# Altium integrated library Altium_WCAP-CSGP (rev22a).IntLib: 953 symbols (part 8 of 17)
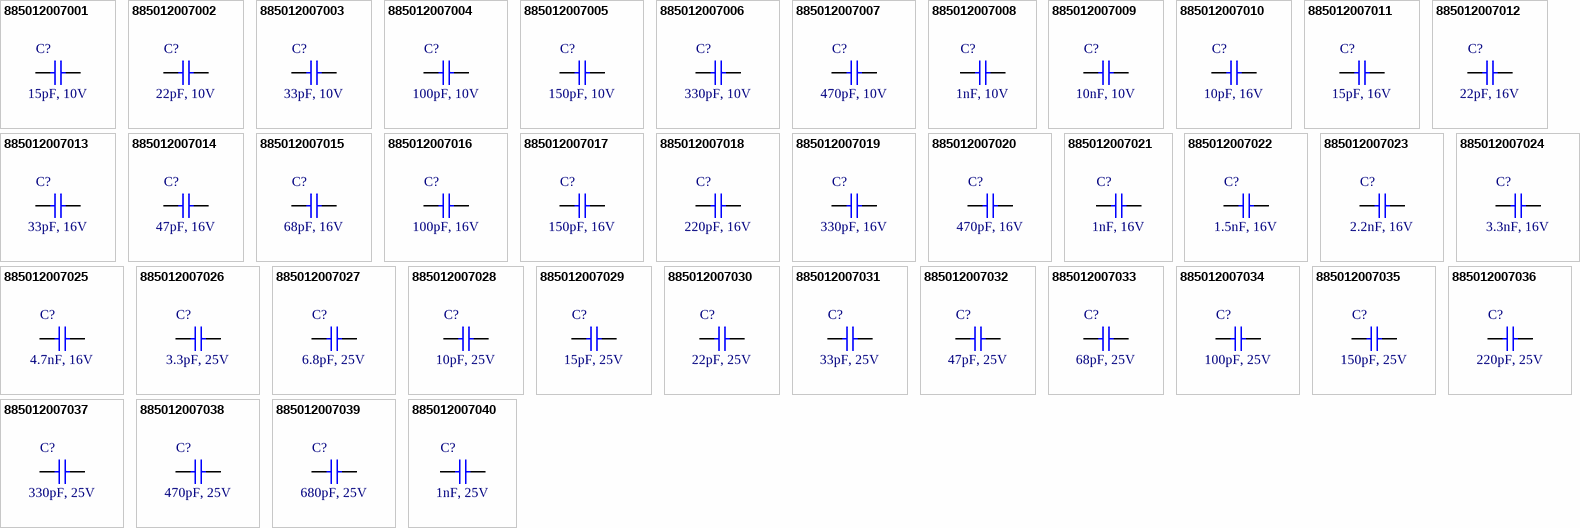
[diagram p34: symbols 885012007001 to 885012007040]

## 885012007021
designator C?, comment 1nF, 16V
WCAP-CSGP Multilayer Ceramic Chip Capacitor, General Purpose, size 0805, NP0, 1nF, 16V; Manufacturer: Wurth Elektronik; Manufacturer Part Number: 885012007021; Capacitance Tolerance: +/-5%; Isolation Resistance: 10GOhm; Q-Factor: 1000; Technical Reference: NP00805102J016DFCT10000; Capacitance: 1nF; Ceramic Type: NP0; ComponentLink1Description: Manufacturer Link; ComponentLink1URL: http://www.we-online.de; ComponentLink2Description: Datasheet; ComponentLink2URL: https://www.we-online.com/catalog/datasheet/885012007021.pdf; Height: 0.8mm; Length: 2mm; Mounting Technology: SMT; Operating Temperature max.: 125C; Operating Temperature min.: -55C; Packaging: Tape and Reel; Rated Voltage: 16V; Size: 0805; Width: 1.25mm
footprint WCAP-CSGP_0805_L2W1.25H0.8_Wave
footprint WCAP-CSGP_0805_L2W1.25H0.8_Reflow
pins: 1, 2

## 885012007022
designator C?, comment 1.5nF, 16V
WCAP-CSGP Multilayer Ceramic Chip Capacitor, General Purpose, size 0805, NP0, 1.5nF, 16V; Manufacturer: Wurth Elektronik; Manufacturer Part Number: 885012007022; Capacitance Tolerance: +/-5%; Isolation Resistance: 10GOhm; Q-Factor: 1000; Technical Reference: NP00805152J016DFCT10000; Capacitance: 1.5nF; Ceramic Type: NP0; ComponentLink1Description: Manufacturer Link; ComponentLink1URL: http://www.we-online.de; ComponentLink2Description: Datasheet; ComponentLink2URL: https://www.we-online.com/catalog/datasheet/885012007022.pdf; Height: 0.8mm; Length: 2mm; Mounting Technology: SMT; Operating Temperature max.: 125C; Operating Temperature min.: -55C; Packaging: Tape and Reel; Rated Voltage: 16V; Size: 0805; Width: 1.25mm
footprint WCAP-CSGP_0805_L2W1.25H0.8_Wave
footprint WCAP-CSGP_0805_L2W1.25H0.8_Reflow
pins: 1, 2

## 885012007023
designator C?, comment 2.2nF, 16V
WCAP-CSGP Multilayer Ceramic Chip Capacitor, General Purpose, size 0805, NP0, 2.2nF, 16V; Manufacturer: Wurth Elektronik; Manufacturer Part Number: 885012007023; Capacitance Tolerance: +/-5%; Isolation Resistance: 10GOhm; Q-Factor: 1000; Technical Reference: NP00805222J016DFCT10000; Capacitance: 2.2nF; Ceramic Type: NP0; ComponentLink1Description: Manufacturer Link; ComponentLink1URL: http://www.we-online.de; ComponentLink2Description: Datasheet; ComponentLink2URL: https://www.we-online.com/catalog/datasheet/885012007023.pdf; Height: 0.8mm; Length: 2mm; Mounting Technology: SMT; Operating Temperature max.: 125C; Operating Temperature min.: -55C; Packaging: Tape and Reel; Rated Voltage: 16V; Size: 0805; Width: 1.25mm
footprint WCAP-CSGP_0805_L2W1.25H0.8_Wave
footprint WCAP-CSGP_0805_L2W1.25H0.8_Reflow
pins: 1, 2

## 885012007024
designator C?, comment 3.3nF, 16V
WCAP-CSGP Multilayer Ceramic Chip Capacitor, General Purpose, size 0805, NP0, 3.3nF, 16V; Manufacturer: Wurth Elektronik; Manufacturer Part Number: 885012007024; Capacitance Tolerance: +/-5%; Isolation Resistance: 10GOhm; Q-Factor: 1000; Technical Reference: NP00805332J016DFCT10000; Capacitance: 3.3nF; Ceramic Type: NP0; ComponentLink1Description: Manufacturer Link; ComponentLink1URL: http://www.we-online.de; ComponentLink2Description: Datasheet; ComponentLink2URL: https://www.we-online.com/catalog/datasheet/885012007024.pdf; Height: 1.25mm; Length: 2mm; Mounting Technology: SMT; Operating Temperature max.: 125C; Operating Temperature min.: -55C; Packaging: Tape and Reel; Rated Voltage: 16V; Size: 0805; Width: 1.25mm
footprint WCAP-CSGP_0805_L2W1.25H1.25
pins: 1, 2

## 885012007025
designator C?, comment 4.7nF, 16V
WCAP-CSGP Multilayer Ceramic Chip Capacitor, General Purpose, size 0805, NP0, 4.7nF, 16V; Manufacturer: Wurth Elektronik; Manufacturer Part Number: 885012007025; Capacitance Tolerance: +/-5%; Isolation Resistance: 10GOhm; Q-Factor: 1000; Technical Reference: NP00805472J016DFCT10000; Capacitance: 4.7nF; Ceramic Type: NP0; ComponentLink1Description: Manufacturer Link; ComponentLink1URL: http://www.we-online.de; ComponentLink2Description: Datasheet; ComponentLink2URL: https://www.we-online.com/catalog/datasheet/885012007025.pdf; Height: 1.25mm; Length: 2mm; Mounting Technology: SMT; Operating Temperature max.: 125C; Operating Temperature min.: -55C; Packaging: Tape and Reel; Rated Voltage: 16V; Size: 0805; Width: 1.25mm
footprint WCAP-CSGP_0805_L2W1.25H1.25
pins: 1, 2

## 885012007026
designator C?, comment 3.3pF, 25V
WCAP-CSGP Multilayer Ceramic Chip Capacitor, General Purpose, size 0805, NP0, 3.3pF, 25V; Manufacturer: Wurth Elektronik; Manufacturer Part Number: 885012007026; Capacitance Tolerance: +/-0.5pF; Isolation Resistance: 10GOhm; Q-Factor: 466; Technical Reference: NP008053R3D025DFCT10000; Capacitance: 3.3pF; Ceramic Type: NP0; ComponentLink1Description: Manufacturer Link; ComponentLink1URL: http://www.we-online.de; ComponentLink2Description: Datasheet; ComponentLink2URL: https://www.we-online.com/catalog/datasheet/885012007026.pdf; Height: 0.6mm; Length: 2mm; Mounting Technology: SMT; Operating Temperature max.: 125C; Operating Temperature min.: -55C; Packaging: Tape and Reel; Rated Voltage: 25V; Size: 0805; Width: 1.25mm
footprint WCAP-CSGP_0805_L2W1.25H0.6_Wave
footprint WCAP-CSGP_0805_L2W1.25H0.6_Reflow
pins: 1, 2

## 885012007027
designator C?, comment 6.8pF, 25V
WCAP-CSGP Multilayer Ceramic Chip Capacitor, General Purpose, size 0805, NP0, 6.8pF, 25V; Manufacturer: Wurth Elektronik; Manufacturer Part Number: 885012007027; Capacitance Tolerance: +/-0.5pF; Isolation Resistance: 10GOhm; Q-Factor: 536; Technical Reference: NP008056R8D025DFCT10000; Capacitance: 6.8pF; Ceramic Type: NP0; ComponentLink1Description: Manufacturer Link; ComponentLink1URL: http://www.we-online.de; ComponentLink2Description: Datasheet; ComponentLink2URL: https://www.we-online.com/catalog/datasheet/885012007027.pdf; Height: 0.6mm; Length: 2mm; Mounting Technology: SMT; Operating Temperature max.: 125C; Operating Temperature min.: -55C; Packaging: Tape and Reel; Rated Voltage: 25V; Size: 0805; Width: 1.25mm
footprint WCAP-CSGP_0805_L2W1.25H0.6_Wave
footprint WCAP-CSGP_0805_L2W1.25H0.6_Reflow
pins: 1, 2

## 885012007028
designator C?, comment 10pF, 25V
WCAP-CSGP Multilayer Ceramic Chip Capacitor, General Purpose, size 0805, NP0, 10pF, 25V; Manufacturer: Wurth Elektronik; Manufacturer Part Number: 885012007028; Capacitance Tolerance: +/-5%; Isolation Resistance: 10GOhm; Q-Factor: 600; Technical Reference: NP00805100J025DFCT10000; Capacitance: 10pF; Ceramic Type: NP0; ComponentLink1Description: Manufacturer Link; ComponentLink1URL: http://www.we-online.de; ComponentLink2Description: Datasheet; ComponentLink2URL: https://www.we-online.com/catalog/datasheet/885012007028.pdf; Height: 0.6mm; Length: 2mm; Mounting Technology: SMT; Operating Temperature max.: 125C; Operating Temperature min.: -55C; Packaging: Tape and Reel; Rated Voltage: 25V; Size: 0805; Width: 1.25mm
footprint WCAP-CSGP_0805_L2W1.25H0.6_Wave
footprint WCAP-CSGP_0805_L2W1.25H0.6_Reflow
pins: 1, 2

## 885012007029
designator C?, comment 15pF, 25V
WCAP-CSGP Multilayer Ceramic Chip Capacitor, General Purpose, size 0805, NP0, 15pF, 25V; Manufacturer: Wurth Elektronik; Manufacturer Part Number: 885012007029; Capacitance Tolerance: +/-5%; Isolation Resistance: 10GOhm; Q-Factor: 700; Technical Reference: NP00805150J025DFCT10000; Capacitance: 15pF; Ceramic Type: NP0; ComponentLink1Description: Manufacturer Link; ComponentLink1URL: http://www.we-online.de; ComponentLink2Description: Datasheet; ComponentLink2URL: https://www.we-online.com/catalog/datasheet/885012007029.pdf; Height: 0.6mm; Length: 2mm; Mounting Technology: SMT; Operating Temperature max.: 125C; Operating Temperature min.: -55C; Packaging: Tape and Reel; Rated Voltage: 25V; Size: 0805; Width: 1.25mm
footprint WCAP-CSGP_0805_L2W1.25H0.6_Wave
footprint WCAP-CSGP_0805_L2W1.25H0.6_Reflow
pins: 1, 2

## 885012007030
designator C?, comment 22pF, 25V
WCAP-CSGP Multilayer Ceramic Chip Capacitor, General Purpose, size 0805, NP0, 22pF, 25V; Manufacturer: Wurth Elektronik; Manufacturer Part Number: 885012007030; Capacitance Tolerance: +/-5%; Isolation Resistance: 10GOhm; Q-Factor: 840; Technical Reference: NP00805220J025DFCT10000; Capacitance: 22pF; Ceramic Type: NP0; ComponentLink1Description: Manufacturer Link; ComponentLink1URL: http://www.we-online.de; ComponentLink2Description: Datasheet; ComponentLink2URL: https://www.we-online.com/catalog/datasheet/885012007030.pdf; Height: 0.6mm; Length: 2mm; Mounting Technology: SMT; Operating Temperature max.: 125C; Operating Temperature min.: -55C; Packaging: Tape and Reel; Rated Voltage: 25V; Size: 0805; Width: 1.25mm
footprint WCAP-CSGP_0805_L2W1.25H0.6_Wave
footprint WCAP-CSGP_0805_L2W1.25H0.6_Reflow
pins: 1, 2

## 885012007031
designator C?, comment 33pF, 25V
WCAP-CSGP Multilayer Ceramic Chip Capacitor, General Purpose, size 0805, NP0, 33pF, 25V; Manufacturer: Wurth Elektronik; Manufacturer Part Number: 885012007031; Capacitance Tolerance: +/-5%; Isolation Resistance: 10GOhm; Q-Factor: 1000; Technical Reference: NP00805330J025DFCT10000; Capacitance: 33pF; Ceramic Type: NP0; ComponentLink1Description: Manufacturer Link; ComponentLink1URL: http://www.we-online.de; ComponentLink2Description: Datasheet; ComponentLink2URL: https://www.we-online.com/catalog/datasheet/885012007031.pdf; Height: 0.6mm; Length: 2mm; Mounting Technology: SMT; Operating Temperature max.: 125C; Operating Temperature min.: -55C; Packaging: Tape and Reel; Rated Voltage: 25V; Size: 0805; Width: 1.25mm
footprint WCAP-CSGP_0805_L2W1.25H0.6_Wave
footprint WCAP-CSGP_0805_L2W1.25H0.6_Reflow
pins: 1, 2

## 885012007032
designator C?, comment 47pF, 25V
WCAP-CSGP Multilayer Ceramic Chip Capacitor, General Purpose, size 0805, NP0, 47pF, 25V; Manufacturer: Wurth Elektronik; Manufacturer Part Number: 885012007032; Capacitance Tolerance: +/-5%; Isolation Resistance: 10GOhm; Q-Factor: 1000; Technical Reference: NP00805470J025DFCT10000; Capacitance: 47pF; Ceramic Type: NP0; ComponentLink1Description: Manufacturer Link; ComponentLink1URL: http://www.we-online.de; ComponentLink2Description: Datasheet; ComponentLink2URL: https://www.we-online.com/catalog/datasheet/885012007032.pdf; Height: 0.6mm; Length: 2mm; Mounting Technology: SMT; Operating Temperature max.: 125C; Operating Temperature min.: -55C; Packaging: Tape and Reel; Rated Voltage: 25V; Size: 0805; Width: 1.25mm
footprint WCAP-CSGP_0805_L2W1.25H0.6_Wave
footprint WCAP-CSGP_0805_L2W1.25H0.6_Reflow
pins: 1, 2

## 885012007033
designator C?, comment 68pF, 25V
WCAP-CSGP Multilayer Ceramic Chip Capacitor, General Purpose, size 0805, NP0, 68pF, 25V; Manufacturer: Wurth Elektronik; Manufacturer Part Number: 885012007033; Capacitance Tolerance: +/-5%; Isolation Resistance: 10GOhm; Q-Factor: 1000; Technical Reference: NP00805680J025DFCT10000; Capacitance: 68pF; Ceramic Type: NP0; ComponentLink1Description: Manufacturer Link; ComponentLink1URL: http://www.we-online.de; ComponentLink2Description: Datasheet; ComponentLink2URL: https://www.we-online.com/catalog/datasheet/885012007033.pdf; Height: 0.6mm; Length: 2mm; Mounting Technology: SMT; Operating Temperature max.: 125C; Operating Temperature min.: -55C; Packaging: Tape and Reel; Rated Voltage: 25V; Size: 0805; Width: 1.25mm
footprint WCAP-CSGP_0805_L2W1.25H0.6_Wave
footprint WCAP-CSGP_0805_L2W1.25H0.6_Reflow
pins: 1, 2

## 885012007034
designator C?, comment 100pF, 25V
WCAP-CSGP Multilayer Ceramic Chip Capacitor, General Purpose, size 0805, NP0, 100pF, 25V; Manufacturer: Wurth Elektronik; Manufacturer Part Number: 885012007034; Capacitance Tolerance: +/-5%; Isolation Resistance: 10GOhm; Q-Factor: 1000; Technical Reference: NP00805101J025DFCT10000; Capacitance: 100pF; Ceramic Type: NP0; ComponentLink1Description: Manufacturer Link; ComponentLink1URL: http://www.we-online.de; ComponentLink2Description: Datasheet; ComponentLink2URL: https://www.we-online.com/catalog/datasheet/885012007034.pdf; Height: 0.6mm; Length: 2mm; Mounting Technology: SMT; Operating Temperature max.: 125C; Operating Temperature min.: -55C; Packaging: Tape and Reel; Rated Voltage: 25V; Size: 0805; Width: 1.25mm
footprint WCAP-CSGP_0805_L2W1.25H0.6_Wave
footprint WCAP-CSGP_0805_L2W1.25H0.6_Reflow
pins: 1, 2

## 885012007035
designator C?, comment 150pF, 25V
WCAP-CSGP Multilayer Ceramic Chip Capacitor, General Purpose, size 0805, NP0, 150pF, 25V; Manufacturer: Wurth Elektronik; Manufacturer Part Number: 885012007035; Capacitance Tolerance: +/-5%; Isolation Resistance: 10GOhm; Q-Factor: 1000; Technical Reference: NP00805151J025DFCT10000; Capacitance: 150pF; Ceramic Type: NP0; ComponentLink1Description: Manufacturer Link; ComponentLink1URL: http://www.we-online.de; ComponentLink2Description: Datasheet; ComponentLink2URL: https://www.we-online.com/catalog/datasheet/885012007035.pdf; Height: 0.6mm; Length: 2mm; Mounting Technology: SMT; Operating Temperature max.: 125C; Operating Temperature min.: -55C; Packaging: Tape and Reel; Rated Voltage: 25V; Size: 0805; Width: 1.25mm
footprint WCAP-CSGP_0805_L2W1.25H0.6_Wave
footprint WCAP-CSGP_0805_L2W1.25H0.6_Reflow
pins: 1, 2

## 885012007036
designator C?, comment 220pF, 25V
WCAP-CSGP Multilayer Ceramic Chip Capacitor, General Purpose, size 0805, NP0, 220pF, 25V; Manufacturer: Wurth Elektronik; Manufacturer Part Number: 885012007036; Capacitance Tolerance: +/-5%; Isolation Resistance: 10GOhm; Q-Factor: 1000; Technical Reference: NP00805221J025DFCT10000; Capacitance: 220pF; Ceramic Type: NP0; ComponentLink1Description: Manufacturer Link; ComponentLink1URL: http://www.we-online.de; ComponentLink2Description: Datasheet; ComponentLink2URL: https://www.we-online.com/catalog/datasheet/885012007036.pdf; Height: 0.6mm; Length: 2mm; Mounting Technology: SMT; Operating Temperature max.: 125C; Operating Temperature min.: -55C; Packaging: Tape and Reel; Rated Voltage: 25V; Size: 0805; Width: 1.25mm
footprint WCAP-CSGP_0805_L2W1.25H0.6_Wave
footprint WCAP-CSGP_0805_L2W1.25H0.6_Reflow
pins: 1, 2

## 885012007037
designator C?, comment 330pF, 25V
WCAP-CSGP Multilayer Ceramic Chip Capacitor, General Purpose, size 0805, NP0, 330pF, 25V; Manufacturer: Wurth Elektronik; Manufacturer Part Number: 885012007037; Capacitance Tolerance: +/-5%; Isolation Resistance: 10GOhm; Q-Factor: 1000; Technical Reference: NP00805331J025DFCT10000; Capacitance: 330pF; Ceramic Type: NP0; ComponentLink1Description: Manufacturer Link; ComponentLink1URL: http://www.we-online.de; ComponentLink2Description: Datasheet; ComponentLink2URL: https://www.we-online.com/catalog/datasheet/885012007037.pdf; Height: 0.6mm; Length: 2mm; Mounting Technology: SMT; Operating Temperature max.: 125C; Operating Temperature min.: -55C; Packaging: Tape and Reel; Rated Voltage: 25V; Size: 0805; Width: 1.25mm
footprint WCAP-CSGP_0805_L2W1.25H0.6_Wave
footprint WCAP-CSGP_0805_L2W1.25H0.6_Reflow
pins: 1, 2

## 885012007038
designator C?, comment 470pF, 25V
WCAP-CSGP Multilayer Ceramic Chip Capacitor, General Purpose, size 0805, NP0, 470pF, 25V; Manufacturer: Wurth Elektronik; Manufacturer Part Number: 885012007038; Capacitance Tolerance: +/-5%; Isolation Resistance: 10GOhm; Q-Factor: 1000; Technical Reference: NP00805471J025DFCT10000; Capacitance: 470pF; Ceramic Type: NP0; ComponentLink1Description: Manufacturer Link; ComponentLink1URL: http://www.we-online.de; ComponentLink2Description: Datasheet; ComponentLink2URL: https://www.we-online.com/catalog/datasheet/885012007038.pdf; Height: 0.8mm; Length: 2mm; Mounting Technology: SMT; Operating Temperature max.: 125C; Operating Temperature min.: -55C; Packaging: Tape and Reel; Rated Voltage: 25V; Size: 0805; Width: 1.25mm
footprint WCAP-CSGP_0805_L2W1.25H0.8_Wave
footprint WCAP-CSGP_0805_L2W1.25H0.8_Reflow
pins: 1, 2

## 885012007039
designator C?, comment 680pF, 25V
WCAP-CSGP Multilayer Ceramic Chip Capacitor, General Purpose, size 0805, NP0, 680pF, 25V; Manufacturer: Wurth Elektronik; Manufacturer Part Number: 885012007039; Capacitance Tolerance: +/-5%; Isolation Resistance: 10GOhm; Q-Factor: 1000; Technical Reference: NP00805681J025DFCT10000; Capacitance: 680pF; Ceramic Type: NP0; ComponentLink1Description: Manufacturer Link; ComponentLink1URL: http://www.we-online.de; ComponentLink2Description: Datasheet; ComponentLink2URL: https://www.we-online.com/catalog/datasheet/885012007039.pdf; Height: 0.8mm; Length: 2mm; Mounting Technology: SMT; Operating Temperature max.: 125C; Operating Temperature min.: -55C; Packaging: Tape and Reel; Rated Voltage: 25V; Size: 0805; Width: 1.25mm
footprint WCAP-CSGP_0805_L2W1.25H0.8_Wave
footprint WCAP-CSGP_0805_L2W1.25H0.8_Reflow
pins: 1, 2

## 885012007040
designator C?, comment 1nF, 25V
WCAP-CSGP Multilayer Ceramic Chip Capacitor, General Purpose, size 0805, NP0, 1nF, 25V; Manufacturer: Wurth Elektronik; Manufacturer Part Number: 885012007040; Capacitance Tolerance: +/-5%; Isolation Resistance: 10GOhm; Q-Factor: 1000; Technical Reference: NP00805102J025DFCT10000; Capacitance: 1nF; Ceramic Type: NP0; ComponentLink1Description: Manufacturer Link; ComponentLink1URL: http://www.we-online.de; ComponentLink2Description: Datasheet; ComponentLink2URL: https://www.we-online.com/catalog/datasheet/885012007040.pdf; Height: 0.8mm; Length: 2mm; Mounting Technology: SMT; Operating Temperature max.: 125C; Operating Temperature min.: -55C; Packaging: Tape and Reel; Rated Voltage: 25V; Size: 0805; Width: 1.25mm
footprint WCAP-CSGP_0805_L2W1.25H0.8_Wave
footprint WCAP-CSGP_0805_L2W1.25H0.8_Reflow
pins: 1, 2

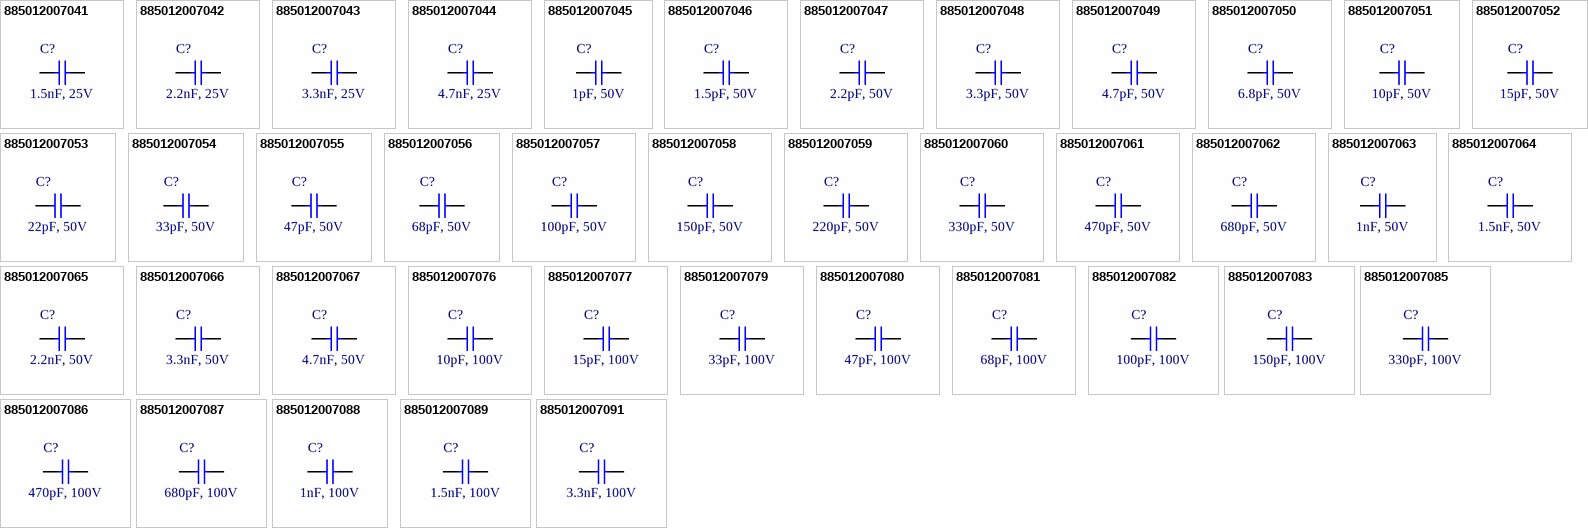
[diagram p12: symbols 885012007041 to 885012007091]

## 885012007041
designator C?, comment 1.5nF, 25V
WCAP-CSGP Multilayer Ceramic Chip Capacitor, General Purpose, size 0805, NP0, 1.5nF, 25V; Manufacturer: Wurth Elektronik; Manufacturer Part Number: 885012007041; Capacitance Tolerance: +/-5%; Isolation Resistance: 10GOhm; Q-Factor: 1000; Technical Reference: NP00805152J025DFCT10000; Capacitance: 1.5nF; Ceramic Type: NP0; ComponentLink1Description: Manufacturer Link; ComponentLink1URL: http://www.we-online.de; ComponentLink2Description: Datasheet; ComponentLink2URL: https://www.we-online.com/catalog/datasheet/885012007041.pdf; Height: 0.8mm; Length: 2mm; Mounting Technology: SMT; Operating Temperature max.: 125C; Operating Temperature min.: -55C; Packaging: Tape and Reel; Rated Voltage: 25V; Size: 0805; Width: 1.25mm
footprint WCAP-CSGP_0805_L2W1.25H0.8_Wave
footprint WCAP-CSGP_0805_L2W1.25H0.8_Reflow
pins: 1, 2

## 885012007042
designator C?, comment 2.2nF, 25V
WCAP-CSGP Multilayer Ceramic Chip Capacitor, General Purpose, size 0805, NP0, 2.2nF, 25V; Manufacturer: Wurth Elektronik; Manufacturer Part Number: 885012007042; Capacitance Tolerance: +/-5%; Isolation Resistance: 10GOhm; Q-Factor: 1000; Technical Reference: NP00805222J025DFCT10000; Capacitance: 2.2nF; Ceramic Type: NP0; ComponentLink1Description: Manufacturer Link; ComponentLink1URL: http://www.we-online.de; ComponentLink2Description: Datasheet; ComponentLink2URL: https://www.we-online.com/catalog/datasheet/885012007042.pdf; Height: 0.8mm; Length: 2mm; Mounting Technology: SMT; Operating Temperature max.: 125C; Operating Temperature min.: -55C; Packaging: Tape and Reel; Rated Voltage: 25V; Size: 0805; Width: 1.25mm
footprint WCAP-CSGP_0805_L2W1.25H0.8_Wave
footprint WCAP-CSGP_0805_L2W1.25H0.8_Reflow
pins: 1, 2

## 885012007043
designator C?, comment 3.3nF, 25V
WCAP-CSGP Multilayer Ceramic Chip Capacitor, General Purpose, size 0805, NP0, 3.3nF, 25V; Manufacturer: Wurth Elektronik; Manufacturer Part Number: 885012007043; Capacitance Tolerance: +/-5%; Isolation Resistance: 10GOhm; Q-Factor: 1000; Technical Reference: NP00805332J025DFCT10000; Capacitance: 3.3nF; Ceramic Type: NP0; ComponentLink1Description: Manufacturer Link; ComponentLink1URL: http://www.we-online.de; ComponentLink2Description: Datasheet; ComponentLink2URL: https://www.we-online.com/catalog/datasheet/885012007043.pdf; Height: 1.25mm; Length: 2mm; Mounting Technology: SMT; Operating Temperature max.: 125C; Operating Temperature min.: -55C; Packaging: Tape and Reel; Rated Voltage: 25V; Size: 0805; Width: 1.25mm
footprint WCAP-CSGP_0805_L2W1.25H1.25
pins: 1, 2

## 885012007044
designator C?, comment 4.7nF, 25V
WCAP-CSGP Multilayer Ceramic Chip Capacitor, General Purpose, size 0805, NP0, 4.7nF, 25V; Manufacturer: Wurth Elektronik; Manufacturer Part Number: 885012007044; Capacitance Tolerance: +/-5%; Isolation Resistance: 10GOhm; Q-Factor: 1000; Technical Reference: NP00805472J025DFCT10000; Capacitance: 4.7nF; Ceramic Type: NP0; ComponentLink1Description: Manufacturer Link; ComponentLink1URL: http://www.we-online.de; ComponentLink2Description: Datasheet; ComponentLink2URL: https://www.we-online.com/catalog/datasheet/885012007044.pdf; Height: 1.25mm; Length: 2mm; Mounting Technology: SMT; Operating Temperature max.: 125C; Operating Temperature min.: -55C; Packaging: Tape and Reel; Rated Voltage: 25V; Size: 0805; Width: 1.25mm
footprint WCAP-CSGP_0805_L2W1.25H1.25
pins: 1, 2

## 885012007045
designator C?, comment 1pF, 50V
WCAP-CSGP Multilayer Ceramic Chip Capacitor, General Purpose, size 0805, NP0, 1pF, 50V; Manufacturer: Wurth Elektronik; Manufacturer Part Number: 885012007045; Capacitance Tolerance: +/-0.5pF; Isolation Resistance: 10GOhm; Q-Factor: 420; Technical Reference: NP008051R0D050DFCT10000; Capacitance: 1pF; Ceramic Type: NP0; ComponentLink1Description: Manufacturer Link; ComponentLink1URL: http://www.we-online.de; ComponentLink2Description: Datasheet; ComponentLink2URL: https://www.we-online.com/catalog/datasheet/885012007045.pdf; Height: 0.6mm; Length: 2mm; Mounting Technology: SMT; Operating Temperature max.: 125C; Operating Temperature min.: -55C; Packaging: Tape and Reel; Rated Voltage: 50V; Size: 0805; Width: 1.25mm
footprint WCAP-CSGP_0805_L2W1.25H0.6_Wave
footprint WCAP-CSGP_0805_L2W1.25H0.6_Reflow
pins: 1, 2

## 885012007046
designator C?, comment 1.5pF, 50V
WCAP-CSGP Multilayer Ceramic Chip Capacitor, General Purpose, size 0805, NP0, 1.5pF, 50V; Manufacturer: Wurth Elektronik; Manufacturer Part Number: 885012007046; Capacitance Tolerance: +/-0.5pF; Isolation Resistance: 10GOhm; Q-Factor: 430; Technical Reference: NP008051R5D050DFCT10000; Capacitance: 1.5pF; Ceramic Type: NP0; ComponentLink1Description: Manufacturer Link; ComponentLink1URL: http://www.we-online.de; ComponentLink2Description: Datasheet; ComponentLink2URL: https://www.we-online.com/catalog/datasheet/885012007046.pdf; Height: 0.6mm; Length: 2mm; Mounting Technology: SMT; Operating Temperature max.: 125C; Operating Temperature min.: -55C; Packaging: Tape and Reel; Rated Voltage: 50V; Size: 0805; Width: 1.25mm
footprint WCAP-CSGP_0805_L2W1.25H0.6_Wave
footprint WCAP-CSGP_0805_L2W1.25H0.6_Reflow
pins: 1, 2

## 885012007047
designator C?, comment 2.2pF, 50V
WCAP-CSGP Multilayer Ceramic Chip Capacitor, General Purpose, size 0805, NP0, 2.2pF, 50V; Manufacturer: Wurth Elektronik; Manufacturer Part Number: 885012007047; Capacitance Tolerance: +/-0.5pF; Isolation Resistance: 10GOhm; Q-Factor: 444; Technical Reference: NP008052R2D050DFCT10000; Capacitance: 2.2pF; Ceramic Type: NP0; ComponentLink1Description: Manufacturer Link; ComponentLink1URL: http://www.we-online.de; ComponentLink2Description: Datasheet; ComponentLink2URL: https://www.we-online.com/catalog/datasheet/885012007047.pdf; Height: 0.6mm; Length: 2mm; Mounting Technology: SMT; Operating Temperature max.: 125C; Operating Temperature min.: -55C; Packaging: Tape and Reel; Rated Voltage: 50V; Size: 0805; Width: 1.25mm
footprint WCAP-CSGP_0805_L2W1.25H0.6_Wave
footprint WCAP-CSGP_0805_L2W1.25H0.6_Reflow
pins: 1, 2

## 885012007048
designator C?, comment 3.3pF, 50V
WCAP-CSGP Multilayer Ceramic Chip Capacitor, General Purpose, size 0805, NP0, 3.3pF, 50V; Manufacturer: Wurth Elektronik; Manufacturer Part Number: 885012007048; Capacitance Tolerance: +/-0.5pF; Isolation Resistance: 10GOhm; Q-Factor: 466; Technical Reference: NP008053R3D050DFCT10000; Capacitance: 3.3pF; Ceramic Type: NP0; ComponentLink1Description: Manufacturer Link; ComponentLink1URL: http://www.we-online.de; ComponentLink2Description: Datasheet; ComponentLink2URL: https://www.we-online.com/catalog/datasheet/885012007048.pdf; Height: 0.6mm; Length: 2mm; Mounting Technology: SMT; Operating Temperature max.: 125C; Operating Temperature min.: -55C; Packaging: Tape and Reel; Rated Voltage: 50V; Size: 0805; Width: 1.25mm
footprint WCAP-CSGP_0805_L2W1.25H0.6_Wave
footprint WCAP-CSGP_0805_L2W1.25H0.6_Reflow
pins: 1, 2

## 885012007049
designator C?, comment 4.7pF, 50V
WCAP-CSGP Multilayer Ceramic Chip Capacitor, General Purpose, size 0805, NP0, 4.7pF, 50V; Manufacturer: Wurth Elektronik; Manufacturer Part Number: 885012007049; Capacitance Tolerance: +/-0.5pF; Isolation Resistance: 10GOhm; Q-Factor: 494; Technical Reference: NP008054R7D050DFCT10000; Capacitance: 4.7pF; Ceramic Type: NP0; ComponentLink1Description: Manufacturer Link; ComponentLink1URL: http://www.we-online.de; ComponentLink2Description: Datasheet; ComponentLink2URL: https://www.we-online.com/catalog/datasheet/885012007049.pdf; Height: 0.6mm; Length: 2mm; Mounting Technology: SMT; Operating Temperature max.: 125C; Operating Temperature min.: -55C; Packaging: Tape and Reel; Rated Voltage: 50V; Size: 0805; Width: 1.25mm
footprint WCAP-CSGP_0805_L2W1.25H0.6_Wave
footprint WCAP-CSGP_0805_L2W1.25H0.6_Reflow
pins: 1, 2

## 885012007050
designator C?, comment 6.8pF, 50V
WCAP-CSGP Multilayer Ceramic Chip Capacitor, General Purpose, size 0805, NP0, 6.8pF, 50V; Manufacturer: Wurth Elektronik; Manufacturer Part Number: 885012007050; Capacitance Tolerance: +/-0.5pF; Isolation Resistance: 10GOhm; Q-Factor: 536; Technical Reference: NP008056R8D050DFCT10000; Capacitance: 6.8pF; Ceramic Type: NP0; ComponentLink1Description: Manufacturer Link; ComponentLink1URL: http://www.we-online.de; ComponentLink2Description: Datasheet; ComponentLink2URL: https://www.we-online.com/catalog/datasheet/885012007050.pdf; Height: 0.6mm; Length: 2mm; Mounting Technology: SMT; Operating Temperature max.: 125C; Operating Temperature min.: -55C; Packaging: Tape and Reel; Rated Voltage: 50V; Size: 0805; Width: 1.25mm
footprint WCAP-CSGP_0805_L2W1.25H0.6_Wave
footprint WCAP-CSGP_0805_L2W1.25H0.6_Reflow
pins: 1, 2

## 885012007051
designator C?, comment 10pF, 50V
WCAP-CSGP Multilayer Ceramic Chip Capacitor, General Purpose, size 0805, NP0, 10pF, 50V; Manufacturer: Wurth Elektronik; Manufacturer Part Number: 885012007051; Capacitance Tolerance: +/-5%; Isolation Resistance: 10GOhm; Q-Factor: 600; Technical Reference: NP00805100J050DFCT10000; Capacitance: 10pF; Ceramic Type: NP0; ComponentLink1Description: Manufacturer Link; ComponentLink1URL: http://www.we-online.de; ComponentLink2Description: Datasheet; ComponentLink2URL: https://www.we-online.com/catalog/datasheet/885012007051.pdf; Height: 0.6mm; Length: 2mm; Mounting Technology: SMT; Operating Temperature max.: 125C; Operating Temperature min.: -55C; Packaging: Tape and Reel; Rated Voltage: 50V; Size: 0805; Width: 1.25mm
footprint WCAP-CSGP_0805_L2W1.25H0.6_Wave
footprint WCAP-CSGP_0805_L2W1.25H0.6_Reflow
pins: 1, 2

## 885012007052
designator C?, comment 15pF, 50V
WCAP-CSGP Multilayer Ceramic Chip Capacitor, General Purpose, size 0805, NP0, 15pF, 50V; Manufacturer: Wurth Elektronik; Manufacturer Part Number: 885012007052; Capacitance Tolerance: +/-5%; Isolation Resistance: 10GOhm; Q-Factor: 700; Technical Reference: NP00805150J050DFCT10000; Capacitance: 15pF; Ceramic Type: NP0; ComponentLink1Description: Manufacturer Link; ComponentLink1URL: http://www.we-online.de; ComponentLink2Description: Datasheet; ComponentLink2URL: https://www.we-online.com/catalog/datasheet/885012007052.pdf; Height: 0.6mm; Length: 2mm; Mounting Technology: SMT; Operating Temperature max.: 125C; Operating Temperature min.: -55C; Packaging: Tape and Reel; Rated Voltage: 50V; Size: 0805; Width: 1.25mm
footprint WCAP-CSGP_0805_L2W1.25H0.6_Wave
footprint WCAP-CSGP_0805_L2W1.25H0.6_Reflow
pins: 1, 2

## 885012007053
designator C?, comment 22pF, 50V
WCAP-CSGP Multilayer Ceramic Chip Capacitor, General Purpose, size 0805, NP0, 22pF, 50V; Manufacturer: Wurth Elektronik; Manufacturer Part Number: 885012007053; Capacitance Tolerance: +/-5%; Isolation Resistance: 10GOhm; Q-Factor: 840; Technical Reference: NP00805220J050DFCT10000; Capacitance: 22pF; Ceramic Type: NP0; ComponentLink1Description: Manufacturer Link; ComponentLink1URL: http://www.we-online.de; ComponentLink2Description: Datasheet; ComponentLink2URL: https://www.we-online.com/catalog/datasheet/885012007053.pdf; Height: 0.6mm; Length: 2mm; Mounting Technology: SMT; Operating Temperature max.: 125C; Operating Temperature min.: -55C; Packaging: Tape and Reel; Rated Voltage: 50V; Size: 0805; Width: 1.25mm
footprint WCAP-CSGP_0805_L2W1.25H0.6_Wave
footprint WCAP-CSGP_0805_L2W1.25H0.6_Reflow
pins: 1, 2

## 885012007054
designator C?, comment 33pF, 50V
WCAP-CSGP Multilayer Ceramic Chip Capacitor, General Purpose, size 0805, NP0, 33pF, 50V; Manufacturer: Wurth Elektronik; Manufacturer Part Number: 885012007054; Capacitance Tolerance: +/-5%; Isolation Resistance: 10GOhm; Q-Factor: 1000; Technical Reference: NP00805330J050DFCT10000; Capacitance: 33pF; Ceramic Type: NP0; ComponentLink1Description: Manufacturer Link; ComponentLink1URL: http://www.we-online.de; ComponentLink2Description: Datasheet; ComponentLink2URL: https://www.we-online.com/catalog/datasheet/885012007054.pdf; Height: 0.6mm; Length: 2mm; Mounting Technology: SMT; Operating Temperature max.: 125C; Operating Temperature min.: -55C; Packaging: Tape and Reel; Rated Voltage: 50V; Size: 0805; Width: 1.25mm
footprint WCAP-CSGP_0805_L2W1.25H0.6_Wave
footprint WCAP-CSGP_0805_L2W1.25H0.6_Reflow
pins: 1, 2

## 885012007055
designator C?, comment 47pF, 50V
WCAP-CSGP Multilayer Ceramic Chip Capacitor, General Purpose, size 0805, NP0, 47pF, 50V; Manufacturer: Wurth Elektronik; Manufacturer Part Number: 885012007055; Capacitance Tolerance: +/-5%; Isolation Resistance: 10GOhm; Q-Factor: 1000; Technical Reference: NP00805470J050DFCT10000; Capacitance: 47pF; Ceramic Type: NP0; ComponentLink1Description: Manufacturer Link; ComponentLink1URL: http://www.we-online.de; ComponentLink2Description: Datasheet; ComponentLink2URL: https://www.we-online.com/catalog/datasheet/885012007055.pdf; Height: 0.6mm; Length: 2mm; Mounting Technology: SMT; Operating Temperature max.: 125C; Operating Temperature min.: -55C; Packaging: Tape and Reel; Rated Voltage: 50V; Size: 0805; Width: 1.25mm
footprint WCAP-CSGP_0805_L2W1.25H0.6_Wave
footprint WCAP-CSGP_0805_L2W1.25H0.6_Reflow
pins: 1, 2

## 885012007056
designator C?, comment 68pF, 50V
WCAP-CSGP Multilayer Ceramic Chip Capacitor, General Purpose, size 0805, NP0, 68pF, 50V; Manufacturer: Wurth Elektronik; Manufacturer Part Number: 885012007056; Capacitance Tolerance: +/-5%; Isolation Resistance: 10GOhm; Q-Factor: 1000; Technical Reference: NP00805680J050DFCT10000; Capacitance: 68pF; Ceramic Type: NP0; ComponentLink1Description: Manufacturer Link; ComponentLink1URL: http://www.we-online.de; ComponentLink2Description: Datasheet; ComponentLink2URL: https://www.we-online.com/catalog/datasheet/885012007056.pdf; Height: 0.6mm; Length: 2mm; Mounting Technology: SMT; Operating Temperature max.: 125C; Operating Temperature min.: -55C; Packaging: Tape and Reel; Rated Voltage: 50V; Size: 0805; Width: 1.25mm
footprint WCAP-CSGP_0805_L2W1.25H0.6_Wave
footprint WCAP-CSGP_0805_L2W1.25H0.6_Reflow
pins: 1, 2

## 885012007057
designator C?, comment 100pF, 50V
WCAP-CSGP Multilayer Ceramic Chip Capacitor, General Purpose, size 0805, NP0, 100pF, 50V; Manufacturer: Wurth Elektronik; Manufacturer Part Number: 885012007057; Capacitance Tolerance: +/-5%; Isolation Resistance: 10GOhm; Q-Factor: 1000; Technical Reference: NP00805101J050DFCT10000; Capacitance: 100pF; Ceramic Type: NP0; ComponentLink1Description: Manufacturer Link; ComponentLink1URL: http://www.we-online.de; ComponentLink2Description: Datasheet; ComponentLink2URL: https://www.we-online.com/catalog/datasheet/885012007057.pdf; Height: 0.6mm; Length: 2mm; Mounting Technology: SMT; Operating Temperature max.: 125C; Operating Temperature min.: -55C; Packaging: Tape and Reel; Rated Voltage: 50V; Size: 0805; Width: 1.25mm
footprint WCAP-CSGP_0805_L2W1.25H0.6_Wave
footprint WCAP-CSGP_0805_L2W1.25H0.6_Reflow
pins: 1, 2

## 885012007058
designator C?, comment 150pF, 50V
WCAP-CSGP Multilayer Ceramic Chip Capacitor, General Purpose, size 0805, NP0, 150pF, 50V; Manufacturer: Wurth Elektronik; Manufacturer Part Number: 885012007058; Capacitance Tolerance: +/-5%; Isolation Resistance: 10GOhm; Q-Factor: 1000; Technical Reference: NP00805151J050DFCT10000; Capacitance: 150pF; Ceramic Type: NP0; ComponentLink1Description: Manufacturer Link; ComponentLink1URL: http://www.we-online.de; ComponentLink2Description: Datasheet; ComponentLink2URL: https://www.we-online.com/catalog/datasheet/885012007058.pdf; Height: 0.6mm; Length: 2mm; Mounting Technology: SMT; Operating Temperature max.: 125C; Operating Temperature min.: -55C; Packaging: Tape and Reel; Rated Voltage: 50V; Size: 0805; Width: 1.25mm
footprint WCAP-CSGP_0805_L2W1.25H0.6_Wave
footprint WCAP-CSGP_0805_L2W1.25H0.6_Reflow
pins: 1, 2

## 885012007059
designator C?, comment 220pF, 50V
WCAP-CSGP Multilayer Ceramic Chip Capacitor, General Purpose, size 0805, NP0, 220pF, 50V; Manufacturer: Wurth Elektronik; Manufacturer Part Number: 885012007059; Capacitance Tolerance: +/-5%; Isolation Resistance: 10GOhm; Q-Factor: 1000; Technical Reference: NP00805221J050DFCT10000; Capacitance: 220pF; Ceramic Type: NP0; ComponentLink1Description: Manufacturer Link; ComponentLink1URL: http://www.we-online.de; ComponentLink2Description: Datasheet; ComponentLink2URL: https://www.we-online.com/catalog/datasheet/885012007059.pdf; Height: 0.6mm; Length: 2mm; Mounting Technology: SMT; Operating Temperature max.: 125C; Operating Temperature min.: -55C; Packaging: Tape and Reel; Rated Voltage: 50V; Size: 0805; Width: 1.25mm
footprint WCAP-CSGP_0805_L2W1.25H0.6_Wave
footprint WCAP-CSGP_0805_L2W1.25H0.6_Reflow
pins: 1, 2

## 885012007060
designator C?, comment 330pF, 50V
WCAP-CSGP Multilayer Ceramic Chip Capacitor, General Purpose, size 0805, NP0, 330pF, 50V; Manufacturer: Wurth Elektronik; Manufacturer Part Number: 885012007060; Capacitance Tolerance: +/-5%; Isolation Resistance: 10GOhm; Q-Factor: 1000; Technical Reference: NP00805331J050DFCT10000; Capacitance: 330pF; Ceramic Type: NP0; ComponentLink1Description: Manufacturer Link; ComponentLink1URL: http://www.we-online.de; ComponentLink2Description: Datasheet; ComponentLink2URL: https://www.we-online.com/catalog/datasheet/885012007060.pdf; Height: 0.6mm; Length: 2mm; Mounting Technology: SMT; Operating Temperature max.: 125C; Operating Temperature min.: -55C; Packaging: Tape and Reel; Rated Voltage: 50V; Size: 0805; Width: 1.25mm
footprint WCAP-CSGP_0805_L2W1.25H0.6_Wave
footprint WCAP-CSGP_0805_L2W1.25H0.6_Reflow
pins: 1, 2

## 885012007061
designator C?, comment 470pF, 50V
WCAP-CSGP Multilayer Ceramic Chip Capacitor, General Purpose, size 0805, NP0, 470pF, 50V; Manufacturer: Wurth Elektronik; Manufacturer Part Number: 885012007061; Capacitance Tolerance: +/-5%; Isolation Resistance: 10GOhm; Q-Factor: 1000; Technical Reference: NP00805471J050DFCT10000; Capacitance: 470pF; Ceramic Type: NP0; ComponentLink1Description: Manufacturer Link; ComponentLink1URL: http://www.we-online.de; ComponentLink2Description: Datasheet; ComponentLink2URL: https://www.we-online.com/catalog/datasheet/885012007061.pdf; Height: 0.8mm; Length: 2mm; Mounting Technology: SMT; Operating Temperature max.: 125C; Operating Temperature min.: -55C; Packaging: Tape and Reel; Rated Voltage: 50V; Size: 0805; Width: 1.25mm
footprint WCAP-CSGP_0805_L2W1.25H0.8_Wave
footprint WCAP-CSGP_0805_L2W1.25H0.8_Reflow
pins: 1, 2

## 885012007062
designator C?, comment 680pF, 50V
WCAP-CSGP Multilayer Ceramic Chip Capacitor, General Purpose, size 0805, NP0, 680pF, 50V; Manufacturer: Wurth Elektronik; Manufacturer Part Number: 885012007062; Capacitance Tolerance: +/-5%; Isolation Resistance: 10GOhm; Q-Factor: 1000; Technical Reference: NP00805681J050DFCT10000; Capacitance: 680pF; Ceramic Type: NP0; ComponentLink1Description: Manufacturer Link; ComponentLink1URL: http://www.we-online.de; ComponentLink2Description: Datasheet; ComponentLink2URL: https://www.we-online.com/catalog/datasheet/885012007062.pdf; Height: 0.8mm; Length: 2mm; Mounting Technology: SMT; Operating Temperature max.: 125C; Operating Temperature min.: -55C; Packaging: Tape and Reel; Rated Voltage: 50V; Size: 0805; Width: 1.25mm
footprint WCAP-CSGP_0805_L2W1.25H0.8_Wave
footprint WCAP-CSGP_0805_L2W1.25H0.8_Reflow
pins: 1, 2

## 885012007063
designator C?, comment 1nF, 50V
WCAP-CSGP Multilayer Ceramic Chip Capacitor, General Purpose, size 0805, NP0, 1nF, 50V; Manufacturer: Wurth Elektronik; Manufacturer Part Number: 885012007063; Capacitance Tolerance: +/-5%; Isolation Resistance: 10GOhm; Q-Factor: 1000; Technical Reference: NP00805102J050DFCT10000; Capacitance: 1nF; Ceramic Type: NP0; ComponentLink1Description: Manufacturer Link; ComponentLink1URL: http://www.we-online.de; ComponentLink2Description: Datasheet; ComponentLink2URL: https://www.we-online.com/catalog/datasheet/885012007063.pdf; Height: 0.8mm; Length: 2mm; Mounting Technology: SMT; Operating Temperature max.: 125C; Operating Temperature min.: -55C; Packaging: Tape and Reel; Rated Voltage: 50V; Size: 0805; Width: 1.25mm
footprint WCAP-CSGP_0805_L2W1.25H0.8_Wave
footprint WCAP-CSGP_0805_L2W1.25H0.8_Reflow
pins: 1, 2

## 885012007064
designator C?, comment 1.5nF, 50V
WCAP-CSGP Multilayer Ceramic Chip Capacitor, General Purpose, size 0805, NP0, 1.5nF, 50V; Manufacturer: Wurth Elektronik; Manufacturer Part Number: 885012007064; Capacitance Tolerance: +/-5%; Isolation Resistance: 10GOhm; Q-Factor: 1000; Technical Reference: NP00805152J050DFCT10000; Capacitance: 1.5nF; Ceramic Type: NP0; ComponentLink1Description: Manufacturer Link; ComponentLink1URL: http://www.we-online.de; ComponentLink2Description: Datasheet; ComponentLink2URL: https://www.we-online.com/catalog/datasheet/885012007064.pdf; Height: 0.8mm; Length: 2mm; Mounting Technology: SMT; Operating Temperature max.: 125C; Operating Temperature min.: -55C; Packaging: Tape and Reel; Rated Voltage: 50V; Size: 0805; Width: 1.25mm
footprint WCAP-CSGP_0805_L2W1.25H0.8_Wave
footprint WCAP-CSGP_0805_L2W1.25H0.8_Reflow
pins: 1, 2

## 885012007065
designator C?, comment 2.2nF, 50V
WCAP-CSGP Multilayer Ceramic Chip Capacitor, General Purpose, size 0805, NP0, 2.2nF, 50V; Manufacturer: Wurth Elektronik; Manufacturer Part Number: 885012007065; Capacitance Tolerance: +/-5%; Isolation Resistance: 10GOhm; Q-Factor: 1000; Technical Reference: NP00805222J050DFCT10000; Capacitance: 2.2nF; Ceramic Type: NP0; ComponentLink1Description: Manufacturer Link; ComponentLink1URL: http://www.we-online.de; ComponentLink2Description: Datasheet; ComponentLink2URL: https://www.we-online.com/catalog/datasheet/885012007065.pdf; Height: 0.8mm; Length: 2mm; Mounting Technology: SMT; Operating Temperature max.: 125C; Operating Temperature min.: -55C; Packaging: Tape and Reel; Rated Voltage: 50V; Size: 0805; Width: 1.25mm
footprint WCAP-CSGP_0805_L2W1.25H0.8_Wave
footprint WCAP-CSGP_0805_L2W1.25H0.8_Reflow
pins: 1, 2

## 885012007066
designator C?, comment 3.3nF, 50V
WCAP-CSGP Multilayer Ceramic Chip Capacitor, General Purpose, size 0805, NP0, 3.3nF, 50V; Manufacturer: Wurth Elektronik; Manufacturer Part Number: 885012007066; Capacitance Tolerance: +/-5%; Isolation Resistance: 10GOhm; Q-Factor: 1000; Technical Reference: NP00805332J050DFCT10000; Capacitance: 3.3nF; Ceramic Type: NP0; ComponentLink1Description: Manufacturer Link; ComponentLink1URL: http://www.we-online.de; ComponentLink2Description: Datasheet; ComponentLink2URL: https://www.we-online.com/catalog/datasheet/885012007066.pdf; Height: 1.25mm; Length: 2mm; Mounting Technology: SMT; Operating Temperature max.: 125C; Operating Temperature min.: -55C; Packaging: Tape and Reel; Rated Voltage: 50V; Size: 0805; Width: 1.25mm
footprint WCAP-CSGP_0805_L2W1.25H1.25
pins: 1, 2

## 885012007067
designator C?, comment 4.7nF, 50V
WCAP-CSGP Multilayer Ceramic Chip Capacitor, General Purpose, size 0805, NP0, 4.7nF, 50V; Manufacturer: Wurth Elektronik; Manufacturer Part Number: 885012007067; Capacitance Tolerance: +/-5%; Isolation Resistance: 10GOhm; Q-Factor: 1000; Technical Reference: NP00805472J050DFCT10000; Capacitance: 4.7nF; Ceramic Type: NP0; ComponentLink1Description: Manufacturer Link; ComponentLink1URL: http://www.we-online.de; ComponentLink2Description: Datasheet; ComponentLink2URL: https://www.we-online.com/catalog/datasheet/885012007067.pdf; Height: 1.25mm; Length: 2mm; Mounting Technology: SMT; Operating Temperature max.: 125C; Operating Temperature min.: -55C; Packaging: Tape and Reel; Rated Voltage: 50V; Size: 0805; Width: 1.25mm
footprint WCAP-CSGP_0805_L2W1.25H1.25
pins: 1, 2

## 885012007076
designator C?, comment 10pF, 100V
WCAP-CSGP Multilayer Ceramic Chip Capacitor, General Purpose, size 0805, NP0, 10pF, 100V; Manufacturer: Wurth Elektronik; Manufacturer Part Number: 885012007076; Capacitance Tolerance: +/-5%; Isolation Resistance: 10GOhm; Q-Factor: 600; Technical Reference: NP00805100J100DFCT10000; Capacitance: 10pF; Ceramic Type: NP0; ComponentLink1Description: Manufacturer Link; ComponentLink1URL: http://www.we-online.de; ComponentLink2Description: Datasheet; ComponentLink2URL: https://www.we-online.com/catalog/datasheet/885012007076.pdf; Height: 0.6mm; Length: 2mm; Mounting Technology: SMT; Operating Temperature max.: 125C; Operating Temperature min.: -55C; Packaging: Tape and Reel; Rated Voltage: 100V; Size: 0805; Width: 1.25mm
footprint WCAP-CSGP_0805_L2W1.25H0.6_Wave
footprint WCAP-CSGP_0805_L2W1.25H0.6_Reflow
pins: 1, 2

## 885012007077
designator C?, comment 15pF, 100V
WCAP-CSGP Multilayer Ceramic Chip Capacitor, General Purpose, size 0805, NP0, 15pF, 100V; Manufacturer: Wurth Elektronik; Manufacturer Part Number: 885012007077; Capacitance Tolerance: +/-5%; Isolation Resistance: 10GOhm; Q-Factor: 700; Technical Reference: NP00805150J100DFCT10000; Capacitance: 15pF; Ceramic Type: NP0; ComponentLink1Description: Manufacturer Link; ComponentLink1URL: http://www.we-online.de; ComponentLink2Description: Datasheet; ComponentLink2URL: https://www.we-online.com/catalog/datasheet/885012007077.pdf; Height: 0.6mm; Length: 2mm; Mounting Technology: SMT; Operating Temperature max.: 125C; Operating Temperature min.: -55C; Packaging: Tape and Reel; Rated Voltage: 100V; Size: 0805; Width: 1.25mm
footprint WCAP-CSGP_0805_L2W1.25H0.6_Wave
footprint WCAP-CSGP_0805_L2W1.25H0.6_Reflow
pins: 1, 2

## 885012007079
designator C?, comment 33pF, 100V
WCAP-CSGP Multilayer Ceramic Chip Capacitor, General Purpose, size 0805, NP0, 33pF, 100V; Manufacturer: Wurth Elektronik; Manufacturer Part Number: 885012007079; Capacitance Tolerance: +/-5%; Isolation Resistance: 10GOhm; Q-Factor: 1000; Technical Reference: NP00805330J100DFCT10000; Capacitance: 33pF; Ceramic Type: NP0; ComponentLink1Description: Manufacturer Link; ComponentLink1URL: http://www.we-online.de; ComponentLink2Description: Datasheet; ComponentLink2URL: https://www.we-online.com/catalog/datasheet/885012007079.pdf; Height: 0.6mm; Length: 2mm; Mounting Technology: SMT; Operating Temperature max.: 125C; Operating Temperature min.: -55C; Packaging: Tape and Reel; Rated Voltage: 100V; Size: 0805; Width: 1.25mm
footprint WCAP-CSGP_0805_L2W1.25H0.6_Wave
footprint WCAP-CSGP_0805_L2W1.25H0.6_Reflow
pins: 1, 2

## 885012007080
designator C?, comment 47pF, 100V
WCAP-CSGP Multilayer Ceramic Chip Capacitor, General Purpose, size 0805, NP0, 47pF, 100V; Manufacturer: Wurth Elektronik; Manufacturer Part Number: 885012007080; Capacitance Tolerance: +/-5%; Isolation Resistance: 10GOhm; Q-Factor: 1000; Technical Reference: NP00805470J100DFCT10000; Capacitance: 47pF; Ceramic Type: NP0; ComponentLink1Description: Manufacturer Link; ComponentLink1URL: http://www.we-online.de; ComponentLink2Description: Datasheet; ComponentLink2URL: https://www.we-online.com/catalog/datasheet/885012007080.pdf; Height: 0.6mm; Length: 2mm; Mounting Technology: SMT; Operating Temperature max.: 125C; Operating Temperature min.: -55C; Packaging: Tape and Reel; Rated Voltage: 100V; Size: 0805; Width: 1.25mm
footprint WCAP-CSGP_0805_L2W1.25H0.6_Wave
footprint WCAP-CSGP_0805_L2W1.25H0.6_Reflow
pins: 1, 2

## 885012007081
designator C?, comment 68pF, 100V
WCAP-CSGP Multilayer Ceramic Chip Capacitor, General Purpose, size 0805, NP0, 68pF, 100V; Manufacturer: Wurth Elektronik; Manufacturer Part Number: 885012007081; Capacitance Tolerance: +/-5%; Isolation Resistance: 10GOhm; Q-Factor: 1000; Technical Reference: NP00805680J100DFCT10000; Capacitance: 68pF; Ceramic Type: NP0; ComponentLink1Description: Manufacturer Link; ComponentLink1URL: http://www.we-online.de; ComponentLink2Description: Datasheet; ComponentLink2URL: https://www.we-online.com/catalog/datasheet/885012007081.pdf; Height: 0.6mm; Length: 2mm; Mounting Technology: SMT; Operating Temperature max.: 125C; Operating Temperature min.: -55C; Packaging: Tape and Reel; Rated Voltage: 100V; Size: 0805; Width: 1.25mm
footprint WCAP-CSGP_0805_L2W1.25H0.6_Wave
footprint WCAP-CSGP_0805_L2W1.25H0.6_Reflow
pins: 1, 2

## 885012007082
designator C?, comment 100pF, 100V
WCAP-CSGP Multilayer Ceramic Chip Capacitor, General Purpose, size 0805, NP0, 100pF, 100V; Manufacturer: Wurth Elektronik; Manufacturer Part Number: 885012007082; Capacitance Tolerance: +/-5%; Isolation Resistance: 10GOhm; Q-Factor: 1000; Technical Reference: NP00805101J100DFCT10000; Capacitance: 100pF; Ceramic Type: NP0; ComponentLink1Description: Manufacturer Link; ComponentLink1URL: http://www.we-online.de; ComponentLink2Description: Datasheet; ComponentLink2URL: https://www.we-online.com/catalog/datasheet/885012007082.pdf; Height: 0.6mm; Length: 2mm; Mounting Technology: SMT; Operating Temperature max.: 125C; Operating Temperature min.: -55C; Packaging: Tape and Reel; Rated Voltage: 100V; Size: 0805; Width: 1.25mm
footprint WCAP-CSGP_0805_L2W1.25H0.6_Wave
footprint WCAP-CSGP_0805_L2W1.25H0.6_Reflow
pins: 1, 2

## 885012007083
designator C?, comment 150pF, 100V
WCAP-CSGP Multilayer Ceramic Chip Capacitor, General Purpose, size 0805, NP0, 150pF, 100V; Manufacturer: Wurth Elektronik; Manufacturer Part Number: 885012007083; Capacitance Tolerance: +/-5%; Isolation Resistance: 10GOhm; Q-Factor: 1000; Technical Reference: NP00805151J100DFCT10000; Capacitance: 150pF; Ceramic Type: NP0; ComponentLink1Description: Manufacturer Link; ComponentLink1URL: http://www.we-online.de; ComponentLink2Description: Datasheet; ComponentLink2URL: https://www.we-online.com/catalog/datasheet/885012007083.pdf; Height: 0.6mm; Length: 2mm; Mounting Technology: SMT; Operating Temperature max.: 125C; Operating Temperature min.: -55C; Packaging: Tape and Reel; Rated Voltage: 100V; Size: 0805; Width: 1.25mm
footprint WCAP-CSGP_0805_L2W1.25H0.6_Wave
footprint WCAP-CSGP_0805_L2W1.25H0.6_Reflow
pins: 1, 2

## 885012007085
designator C?, comment 330pF, 100V
WCAP-CSGP Multilayer Ceramic Chip Capacitor, General Purpose, size 0805, NP0, 330pF, 100V; Manufacturer: Wurth Elektronik; Manufacturer Part Number: 885012007085; Capacitance Tolerance: +/-5%; Isolation Resistance: 10GOhm; Q-Factor: 1000; Technical Reference: NP00805331J100DFCT10000; Capacitance: 330pF; Ceramic Type: NP0; ComponentLink1Description: Manufacturer Link; ComponentLink1URL: http://www.we-online.de; ComponentLink2Description: Datasheet; ComponentLink2URL: https://www.we-online.com/catalog/datasheet/885012007085.pdf; Height: 0.6mm; Length: 2mm; Mounting Technology: SMT; Operating Temperature max.: 125C; Operating Temperature min.: -55C; Packaging: Tape and Reel; Rated Voltage: 100V; Size: 0805; Width: 1.25mm
footprint WCAP-CSGP_0805_L2W1.25H0.6_Wave
footprint WCAP-CSGP_0805_L2W1.25H0.6_Reflow
pins: 1, 2

## 885012007086
designator C?, comment 470pF, 100V
WCAP-CSGP Multilayer Ceramic Chip Capacitor, General Purpose, size 0805, NP0, 470pF, 100V; Manufacturer: Wurth Elektronik; Manufacturer Part Number: 885012007086; Capacitance Tolerance: +/-5%; Isolation Resistance: 10GOhm; Q-Factor: 1000; Technical Reference: NP00805471J100DFCT10000; Capacitance: 470pF; Ceramic Type: NP0; ComponentLink1Description: Manufacturer Link; ComponentLink1URL: http://www.we-online.de; ComponentLink2Description: Datasheet; ComponentLink2URL: https://www.we-online.com/catalog/datasheet/885012007086.pdf; Height: 0.8mm; Length: 2mm; Mounting Technology: SMT; Operating Temperature max.: 125C; Operating Temperature min.: -55C; Packaging: Tape and Reel; Rated Voltage: 100V; Size: 0805; Width: 1.25mm
footprint WCAP-CSGP_0805_L2W1.25H0.8_Wave
footprint WCAP-CSGP_0805_L2W1.25H0.8_Reflow
pins: 1, 2

## 885012007087
designator C?, comment 680pF, 100V
WCAP-CSGP Multilayer Ceramic Chip Capacitor, General Purpose, size 0805, NP0, 680pF, 100V; Manufacturer: Wurth Elektronik; Manufacturer Part Number: 885012007087; Capacitance Tolerance: +/-5%; Isolation Resistance: 10GOhm; Q-Factor: 1000; Technical Reference: NP00805681J100DFCT10000; Capacitance: 680pF; Ceramic Type: NP0; ComponentLink1Description: Manufacturer Link; ComponentLink1URL: http://www.we-online.de; ComponentLink2Description: Datasheet; ComponentLink2URL: https://www.we-online.com/catalog/datasheet/885012007087.pdf; Height: 0.8mm; Length: 2mm; Mounting Technology: SMT; Operating Temperature max.: 125C; Operating Temperature min.: -55C; Packaging: Tape and Reel; Rated Voltage: 100V; Size: 0805; Width: 1.25mm
footprint WCAP-CSGP_0805_L2W1.25H0.8_Wave
footprint WCAP-CSGP_0805_L2W1.25H0.8_Reflow
pins: 1, 2